# EAGLE library part LSM303D (library BoneCapeParts)
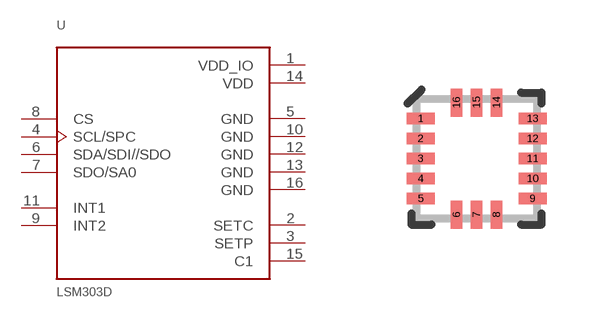
[diagram p2: symbol with the pads of LGA16-3MM; footprint LGA16-3MM]

Designator prefix -

## LSM303D  [LGA16-3MM]
1  VDD_IO  sup
2  SETC  pas
3  SETP  pas
4  SCL/SPC  oc
5  GND  sup
6  SDA/SDI//SDO  oc
7  SDO/SA0
8  CS  in
9  INT2  out
10  GND  sup
11  INT1  out
12  GND  sup
13  GND  sup
14  VDD  sup
15  C1  pas
16  GND  sup

## Footprint LGA16-3MM (pad centres in mm)
LGA16 (3x3x1mm)
smd 0.7 x 0.28: 1 -1.4,1; 2 -1.4,0.5; 3 -1.4,0; 4 -1.4,-0.5; 5 -1.4,-1; 9 1.4,-1; 10 1.4,-0.5; 11 1.4,0; 12 1.4,0.5; 13 1.4,1
smd 0.28 x 0.7: 6 -0.5,-1.4; 7 0,-1.4; 8 0.5,-1.4; 14 0.5,1.4; 15 0,1.4; 16 -0.5,1.4